# Altium schematic symbol library WM8962BECSN_R.SchLib: 1 symbol
Pins are listed as number, name and electrical type; pins without a type are passive.

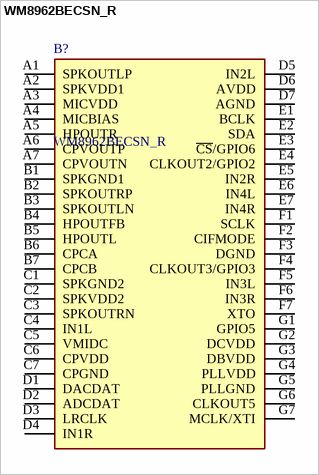
[diagram p0: symbol WM8962BECSN_R]

## WM8962BECSN_R
designator B?
Interface - CODECs Stereo CODEC with Audio Enhancement; Manufacturer_Name: Cirrus Logic; Manufacturer_Part_Number: WM8962BECSN/R; Geometry.Height: 0.75mm; Mouser Part Number: 238-WM8962BECSN/R; Mouser Price/Stock: https://www.mouser.co.uk/ProductDetail/Cirrus-Logic/WM8962BECSN-R?qs=3kEcuH7qFheYlZ%252BQusC%2FLw%3D%3D; Datasheet Link: https://d3uzseaevmutz1.cloudfront.net/pubs/proDatasheet/WM8962B_v4.2.pdf
footprint BGA49C50P7X7_359X398X75
pins: A1 SPKOUTLP, A2 SPKVDD1, A3 MICVDD, A4 MICBIAS, A5 HPOUTR, A6 CPVOUTP, A7 CPVOUTN, B1 SPKGND1, B2 SPKOUTRP, B3 SPKOUTLN, B4 HPOUTFB, B5 HPOUTL, B6 CPCA, B7 CPCB, C1 SPKGND2, C2 SPKVDD2, C3 SPKOUTRN, C4 IN1L, C5 VMIDC, C6 CPVDD, C7 CPGND, D1 DACDAT, D2 ADCDAT, D3 LRCLK, D4 IN1R, D5 IN2L, D6 AVDD, D7 AGND, E1 BCLK, E2 SDA, E3 ~{CS}/GPIO6, E4 CLKOUT2/GPIO2, E5 IN2R, E6 IN4L, E7 IN4R, F1 SCLK, F2 CIFMODE, F3 DGND, F4 CLKOUT3/GPIO3, F5 IN3L, F6 IN3R, F7 XTO, G1 GPIO5, G2 DCVDD, G3 DBVDD, G4 PLLVDD, G5 PLLGND, G6 CLKOUT5, G7 MCLK/XTI